# EAGLE library part ADP5074 (library all-chips)
ADP5074 Analog Devices 2.4 A, DC-to-DC Inverting Regulator
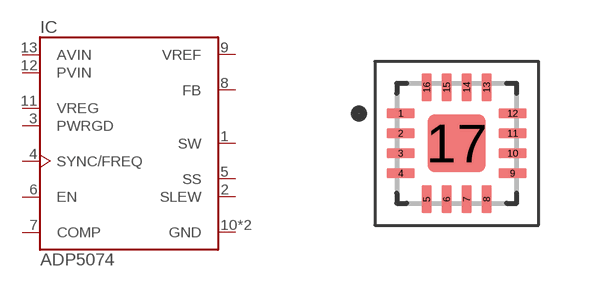
[diagram p10: symbol with the pads of QFN16_3.00X3.00MM; footprint QFN16_3.00X3.00MM]

Designator prefix IC

## ADP5074  [QFN16_3.00X3.00MM]
1  SW  pwr
2  SLEW  in
3  PWRGD  out
4  SYNC/FREQ  in
5  SS  in
6  EN  in
7  COMP
8  FB  in
9  VREF  out
10  GND  pwr
11  VREG  pwr
12  PVIN  pwr
13  AVIN  pwr
17  GND  pwr

## Footprint QFN16_3.00X3.00MM (pad centres in mm)
https://www.analog.com/media/en/package-pcb-resources/package/pkg_pdf/ltc-legacy-qfn/05081782_0_UD16-BB.pdf
smd 0.7 x 0.25: 1 -1.4,0.75; 2 -1.4,0.25; 3 -1.4,-0.25; 4 -1.4,-0.75; 9 1.4,-0.75; 10 1.4,-0.25; 11 1.4,0.25; 12 1.4,0.75
smd 0.25 x 0.7: 5 -0.75,-1.4; 6 -0.25,-1.4; 7 0.25,-1.4; 8 0.75,-1.4; 13 0.75,1.4; 14 0.25,1.4; 15 -0.25,1.4; 16 -0.75,1.4
smd 1.45 x 1.45: 17 0,0